# Altium schematic symbol library AOP.SchLib: 1 symbol
Pins are listed as number, name and electrical type; pins without a type are passive.

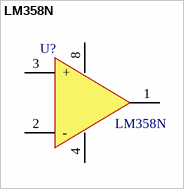
[diagram p0: symbol LM358N]

## LM358N
designator U?
AMPLI OP DOUBLE 1MHZ 0.1V/US 8DIP; Manufacturer: FAIRCHILD SEMICONDUCTOR; Supplier 1: Farnell; Supplier Part Number 1: 2295980; Manufacturer Part Number: LM358N
footprint DIP_8
pins: 1, 2 -, 3 +, 4 (power), 8 (power)